# EAGLE library part MGM210L (library mgm210)
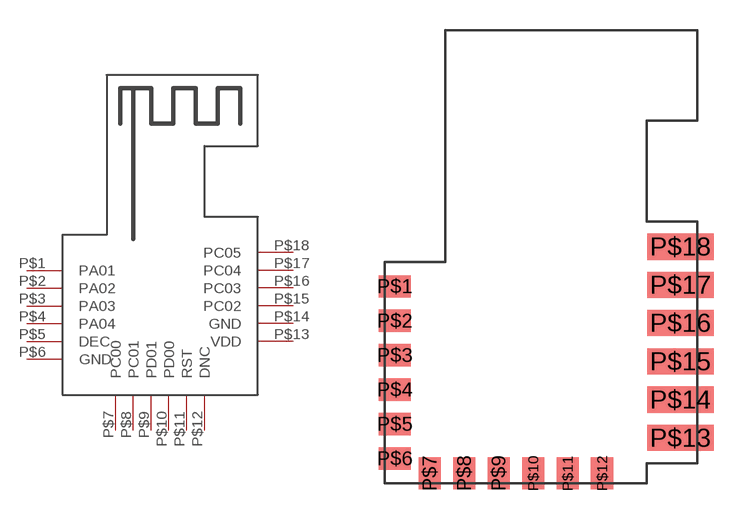
[diagram p0: symbol with the pads of MGM210L; footprint MGM210L]

Designator prefix -

## MGM210L  [MGM210L]
P$1  PA01
P$2  PA02
P$3  PA03
P$4  PA04
P$5  DEC
P$6  GND
P$7  PC00
P$8  PC01
P$9  PD01
P$10  PD00
P$11  RST
P$12  DNC
P$13  VDD
P$14  GND
P$15  PC02
P$16  PC03
P$17  PC04
P$18  PC05

## Footprint MGM210L (pad centres in mm)
smd 1.6 x 1.1: P$1 0.5,9.78; P$2 0.5,8.07; P$3 0.5,6.36; P$4 0.5,4.65; P$5 0.5,2.94; P$6 0.5,1.23
smd 1.1 x 1.6: P$7 2.23,0.5; P$8 3.94,0.5; P$9 5.65,0.5; P$10 7.36,0.5; P$11 9.07,0.5; P$12 10.78,0.5
smd 3.3 x 1.3: P$13 14.67,2.25; P$14 14.67,4.15; P$15 14.67,6.05; P$16 14.67,7.96; P$17 14.67,9.85; P$18 14.67,11.75